# Altium footprint library PAA5102.PcbLib: 1 footprints
Each footprint in its own frame and in the unit in brackets; x right, y up, seen from the top. Pads: shape width x height; smd on the part's side, far side on the other; paste and mask are expansions set on the pad; w line width, h text height; cw(c..) or ccw(c..) is an arc to the next point about the centre after c.
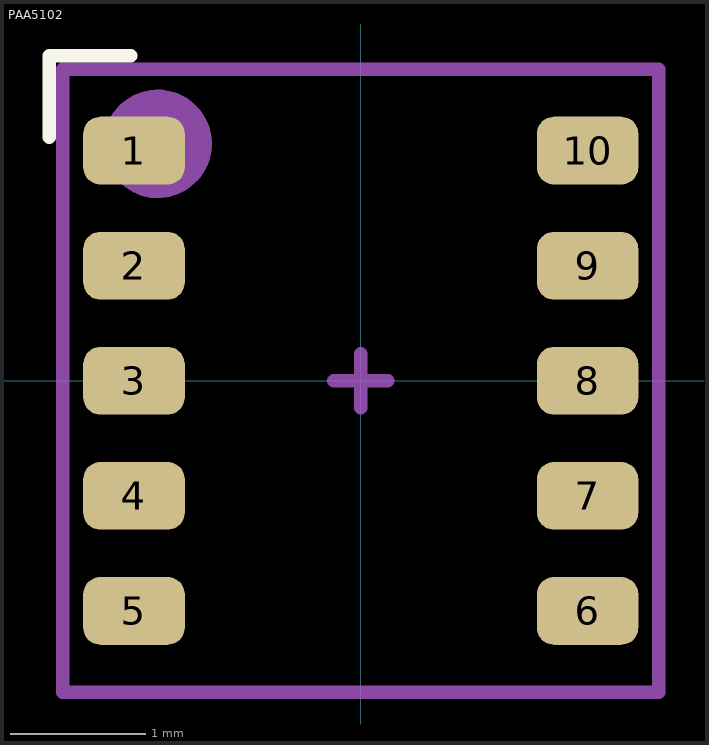
[diagram p0: the footprint, top view; thin cyan lines are the x and y axes]

## PAA5102 [mm]
pads (10):
  rrect50% 0.75x0.5 smd mask+0.05: 1(-1.675,1.7) 2(-1.675,0.85) 3(-1.675,0) 4(-1.675,-0.85) 5(-1.675,-1.7) 6(1.675,-1.7) 7(1.675,-0.85) 8(1.675,0) 9(1.675,0.85) 10(1.675,1.7)
Top Overlay:
  lines w0.1: -2.3,1.8 -2.3,2.4 -1.7,2.4
Top Assembly:
  circle w0.4: c-1.5,1.75 r0.2
  lines w0.1: -2.2,-2.3 2.2,-2.3 2.2,2.3 -2.2,2.3 -2.2,-2.3
Top Courtyard:
  lines w0.1: -0.2,0 0.2,0 ; 0,-0.2 0,0.2 ; -2.2,-2.3 -2.2,2.3 2.2,2.3 2.2,-2.3 -2.2,-2.3
3D body: height 1, standoff -0.01, extent -2.2,-2.3 2.2,2.3